# Altium schematic symbol library fuse.SchLib: 1 symbol
Pins are listed as number, name and electrical type; pins without a type are passive.

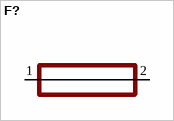
[diagram p0: symbol F?]

## F?
designator ?
footprint BMS 2S
pins: 1, 2